# EAGLE library part BQ27426YZFR (library CharIoT)
Old Fuel Gauge
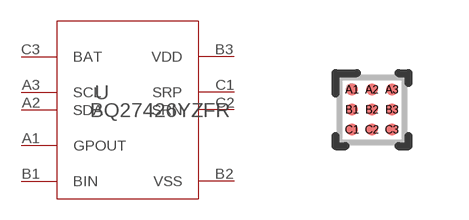
[diagram p4: symbol with the pads of YZF0009AKAL; footprint YZF0009AKAL]

Designator prefix U

## BQ27426YZFR (ALTERNATEPARTNUMBER: BQ27426YZFT; COMPTYPE: IC; MANUFACTURER: Texas Instruments; MOUNTTYPE: SMT; PACKAGEREFERENCE: YZF0009AKAL; PARTNUMBER: BQ27426YZFR; PIN_COUNT: 9; REFDES: RefDes; TYPE: TYPE; VALUE: Value)  [YZF0009AKAL]
A1  GPOUT  oc
A2  SDA
A3  SCL
B1  BIN  in
B2  VSS  pwr
B3  VDD  pwr
C1  SRP  in
C2  SRN  in
C3  BAT  pwr

## Footprint YZF0009AKAL (pad centres in mm)
smd 0.3 x 0.3: A1 -0.5,0.5; A2 0,0.5; A3 0.5,0.5; B1 -0.5,0; B2 0,0; B3 0.5,0; C1 -0.5,-0.5; C2 0,-0.5; C3 0.5,-0.5